# Altium footprint library WR-MPC5.PcbLib: 52 footprints (part 4 of 4)
Each footprint in its own frame and in the unit in brackets; x right, y up, seen from the top. Pads: shape width x height; smd on the part's side, far side on the other; paste and mask are expansions set on the pad; w line width, h text height; cw(c..) or ccw(c..) is an arc to the next point about the centre after c.
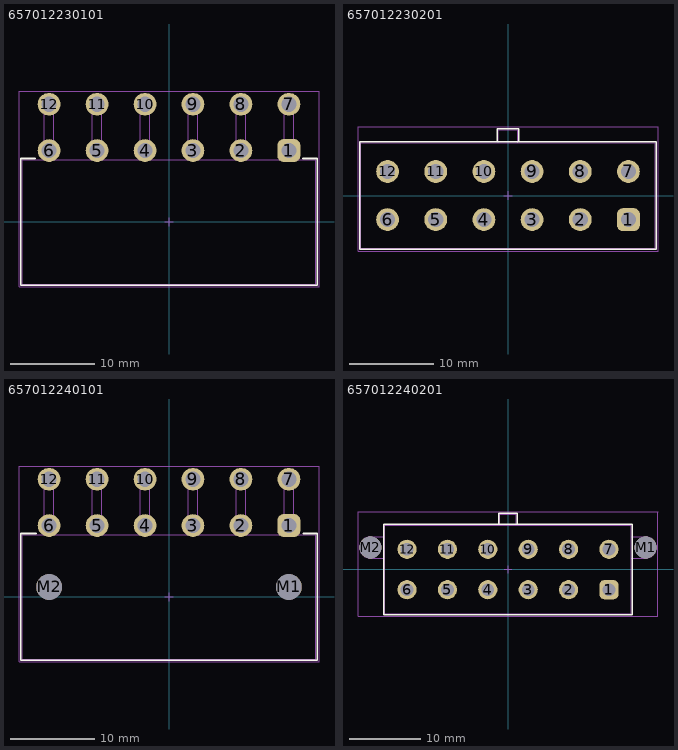
[diagram p3: the footprints below, top view; thin cyan lines are the x and y axes]

## 657012230101 [mm] "Dual Row Male Header Right Angled, GW, THT, 12p"
height 14.53
pads (12):
  rrect50% 2.7x2.7 hole 1.8: 1(14.25,8.47)
  round 2.7 hole 1.8: 2(8.55,8.47) 3(2.85,8.47) 4(-2.85,8.47) 5(-8.55,8.47) 6(-14.25,8.47) 7(14.25,13.97) 8(8.55,13.97) 9(2.85,13.97) 10(-2.85,13.97) 11(-8.55,13.97) 12(-14.25,13.97)
Top Overlay:
  lines w0.2: -15.9,7.525 -17.625,7.525 -17.625,-7.525 17.625,-7.525 17.625,7.525 15.9,7.525
Top Designator:
  text ".Designator" at -7.498,-0.5 h1.5
Top Component Outline:
  lines w0.1: -14.82,7.4 -14.82,14.54 -13.68,14.54 -13.68,7.4 ; -14.82,9.04 -13.68,9.04 ; -9.12,7.4 -9.12,14.54 -7.98,14.54 -7.98,7.4 ; -9.12,9.04 -7.98,9.04 ; -3.42,7.4 -3.42,14.54 -2.28,14.54 -2.28,7.4 ; -3.42,9.04 -2.28,9.04 ; 2.28,7.4 2.28,14.54 3.42,14.54 3.42,7.4 ; 2.28,9.04 3.42,9.04 ; 7.98,7.4 7.98,14.54 9.12,14.54 9.12,7.4 ; 7.98,9.04 9.12,9.04 ; 13.68,7.4 13.68,14.54 14.82,14.54 14.82,7.4 ; 13.68,9.04 14.82,9.04 ; -17.425,-7.4 -17.425,7.4 17.425,7.4 17.425,-7.4 -17.425,-7.4
Top Courtyard:
  lines w0.05: -17.825,-7.725 17.825,-7.725 17.825,15.52 -17.825,15.52 -17.825,-7.725
Top Component Center:
  lines w0.05: -0.5,0 0.5,0 ; 0,-0.5 0,0.5
3D body "657012230101.stp": height 14.69, standoff -3.44, extent -17.425,-7.4 17.425,14.54

## 657012230201 [mm] "THT Dual Row Male Header Vertical, 12p"
height 14.8
pads (12):
  rrect50% 2.7x2.7 hole 1.8: 1(14.25,-2.85)
  round 2.7 hole 1.8: 2(8.55,-2.85) 3(2.85,-2.85) 4(-2.85,-2.85) 5(-8.55,-2.85) 6(-14.25,-2.85) 7(14.25,2.85) 8(8.55,2.85) 9(2.85,2.85) 10(-2.85,2.85) 11(-8.55,2.85) 12(-14.25,2.85)
Top Overlay:
  lines w0.2: -1.275,6.365 -1.275,7.915 1.275,7.915 1.275,6.365 ; -17.55,-6.365 -17.55,6.365 17.55,6.365 17.55,-6.365 -17.55,-6.365
Top Designator:
  text ".Designator" at -7.498,-0.5 h1.5
Top Component Outline:
  lines w0.1: -1.15,6.24 -1.15,7.79 1.15,7.79 1.15,6.24 ; -17.425,-6.24 -17.425,6.24 17.425,6.24 17.425,-6.24 -17.425,-6.24
Top Courtyard:
  lines w0.05: -17.75,-6.565 17.75,-6.565 17.75,8.115 -17.75,8.115 -17.75,-6.565
Top Component Center:
  lines w0.05: -0.5,0 0.5,0 ; 0,-0.5 0,0.5
3D body "657012230201.stp": height 14.85, standoff -3.65, extent -17.425,-6.24 17.425,7.79

## 657012240101 [mm] "Dual Row Male Header Right Angled, GW, THT, 12p"
height 14.53
pads (14):
  rrect50% 2.7x2.7 hole 1.8: 1(14.25,8.47)
  round 2.7 hole 1.8: 2(8.55,8.47) 3(2.85,8.47) 4(-2.85,8.47) 5(-8.55,8.47) 6(-14.25,8.47) 7(14.25,13.97) 8(8.55,13.97) 9(2.85,13.97) 10(-2.85,13.97) 11(-8.55,13.97) 12(-14.25,13.97)
  round 3.05 hole 3.05 unplated: M1(14.25,1.17) M2(-14.25,1.17)
Top Overlay:
  lines w0.2: -15.8,7.525 -17.625,7.525 -17.625,-7.525 17.625,-7.525 17.625,7.525 15.95,7.525
Top Designator:
  text ".Designator" at -7.498,-0.5 h1.5
Top Component Outline:
  lines w0.1: -14.82,7.4 -14.82,14.54 -13.68,14.54 -13.68,7.4 ; -14.82,9.04 -13.68,9.04 ; -9.12,7.4 -9.12,14.54 -7.98,14.54 -7.98,7.4 ; -9.12,9.04 -7.98,9.04 ; -3.42,7.4 -3.42,14.54 -2.28,14.54 -2.28,7.4 ; -3.42,9.04 -2.28,9.04 ; 2.28,7.4 2.28,14.54 3.42,14.54 3.42,7.4 ; 2.28,9.04 3.42,9.04 ; 7.98,7.4 7.98,14.54 9.12,14.54 9.12,7.4 ; 7.98,9.04 9.12,9.04 ; 13.68,7.4 13.68,14.54 14.82,14.54 14.82,7.4 ; 13.68,9.04 14.82,9.04 ; -17.425,-7.4 -17.425,7.4 17.425,7.4 17.425,-7.4 -17.425,-7.4
Top Courtyard:
  lines w0.05: -17.825,-7.725 -17.825,15.52 17.825,15.52 17.825,-7.725 -17.825,-7.725
Top Component Center:
  lines w0.05: -0.5,0 0.5,0 ; 0,-0.5 0,0.5
3D body "657012240101.stp": height 14.69, standoff -3.44, extent -17.425,-7.4 17.425,14.54

## 657012240201 [mm] "THT Dual Row Male Header Vertical with Pegs, 12p"
height 14.8
pads (14):
  rrect50% 2.7x2.7 hole 1.8: 1(14.25,-2.85)
  round 2.7 hole 1.8: 2(8.55,-2.85) 3(2.85,-2.85) 4(-2.85,-2.85) 5(-8.55,-2.85) 6(-14.25,-2.85) 7(14.25,2.85) 8(8.55,2.85) 9(2.85,2.85) 10(-2.85,2.85) 11(-8.55,2.85) 12(-14.25,2.85)
  round 3.1 hole 3.1 unplated: M1(19.42,3.11) M2(-19.42,3.11)
Top Overlay:
  lines w0.2: -1.275,6.365 -1.275,7.915 1.275,7.915 1.275,6.365 ; -17.55,-6.365 -17.55,6.365 17.55,6.365 17.55,-6.365 -17.55,-6.365
Top Designator:
  text ".Designator" at -7.498,-0.5 h1.5
Top Component Outline:
  lines w0.1: -20.942,3 cw(c-19.415,3.09) -19.415,4.62 -17.425,4.62 ; -20.942,3.19 ccw(c-19.415,3.1) -19.415,1.57 -17.425,1.57 ; -1.15,6.24 -1.15,7.79 1.15,7.79 1.15,6.24 ; 17.425,1.57 19.415,1.57 ccw(c19.415,3.1) 20.942,3.19 ; 17.425,4.62 19.415,4.62 cw(c19.415,3.09) 20.942,3 ; -17.425,-6.24 -17.425,6.24 17.425,6.24 17.425,-6.24 -17.425,-6.24
Top Courtyard:
  lines w0.05: -21.17,-6.565 21.17,-6.565 21.17,8.115 -21.17,8.115 -21.17,-6.565
Top Component Center:
  lines w0.05: -0.5,0 0.5,0 ; 0,-0.5 0,0.5
3D body "657012240201.stp": height 14.85, standoff -3.65, extent -20.95,-6.24 20.95,7.79